# Altium footprint library IPC-7355 CQFP_Sq_63P_Side_M.PcbLib: 4 footprints
Each footprint in its own frame and in the unit in brackets; x right, y up, seen from the top. Pads: shape width x height; smd on the part's side, far side on the other; paste and mask are expansions set on the pad; w line width, h text height; cw(c..) or ccw(c..) is an arc to the next point about the centre after c.
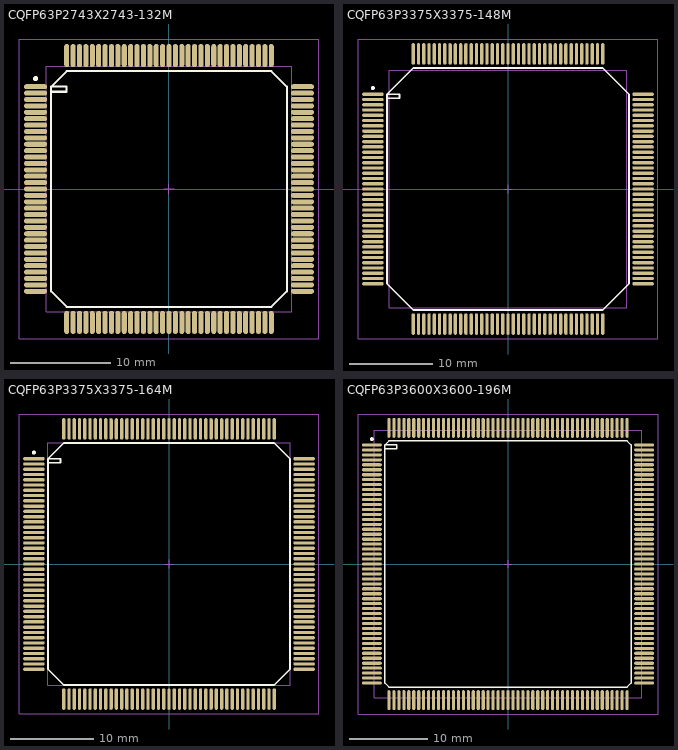
[diagram p0: the footprints below, top view; thin cyan lines are the x and y axes]

## CQFP63P2743X2743-132M [mm] "CQFP, 132-Leads, Body 24x24mm; Pitch 0.635mm, Gullwing Leadform, IPC Low Density"
height 3.6
pads (132):
  oval 2.3x0.5 smd: 1(-13.25,10.16) 2(-13.25,9.525) 3(-13.25,8.89) 4(-13.25,8.255) 5(-13.25,7.62) 6(-13.25,6.985) 7(-13.25,6.35) 8(-13.25,5.715) 9(-13.25,5.08) 10(-13.25,4.445) 11(-13.25,3.81) 12(-13.25,3.175) 13(-13.25,2.54) 14(-13.25,1.905) 15(-13.25,1.27) 16(-13.25,0.635) 17(-13.25,0) 18(-13.25,-0.635) 19(-13.25,-1.27) 20(-13.25,-1.905) 21(-13.25,-2.54) 22(-13.25,-3.175) 23(-13.25,-3.81) 24(-13.25,-4.445) 25(-13.25,-5.08) 26(-13.25,-5.715) 27(-13.25,-6.35) 28(-13.25,-6.985) 29(-13.25,-7.62) 30(-13.25,-8.255) 31(-13.25,-8.89) 32(-13.25,-9.525) 33(-13.25,-10.16) 67(13.25,-10.16) 68(13.25,-9.525) 69(13.25,-8.89) 70(13.25,-8.255) 71(13.25,-7.62) 72(13.25,-6.985) 73(13.25,-6.35) 74(13.25,-5.715) 75(13.25,-5.08) 76(13.25,-4.445) 77(13.25,-3.81) 78(13.25,-3.175) 79(13.25,-2.54) 80(13.25,-1.905) 81(13.25,-1.27) 82(13.25,-0.635) 83(13.25,0) 84(13.25,0.635) 85(13.25,1.27) 86(13.25,1.905) 87(13.25,2.54) 88(13.25,3.175) 89(13.25,3.81) 90(13.25,4.445) 91(13.25,5.08) 92(13.25,5.715) 93(13.25,6.35) 94(13.25,6.985) 95(13.25,7.62) 96(13.25,8.255) 97(13.25,8.89) 98(13.25,9.525) 99(13.25,10.16)
  oval 0.5x2.3 smd: 34(-10.16,-13.25) 35(-9.525,-13.25) 36(-8.89,-13.25) 37(-8.255,-13.25) 38(-7.62,-13.25) 39(-6.985,-13.25) 40(-6.35,-13.25) 41(-5.715,-13.25) 42(-5.08,-13.25) 43(-4.445,-13.25) 44(-3.81,-13.25) 45(-3.175,-13.25) 46(-2.54,-13.25) 47(-1.905,-13.25) 48(-1.27,-13.25) 49(-0.635,-13.25) 50(0,-13.25) 51(0.635,-13.25) 52(1.27,-13.25) 53(1.905,-13.25) 54(2.54,-13.25) 55(3.175,-13.25) 56(3.81,-13.25) 57(4.445,-13.25) 58(5.08,-13.25) 59(5.715,-13.25) 60(6.35,-13.25) 61(6.985,-13.25) 62(7.62,-13.25) 63(8.255,-13.25) 64(8.89,-13.25) 65(9.525,-13.25) 66(10.16,-13.25) 100(10.16,13.25) 101(9.525,13.25) 102(8.89,13.25) 103(8.255,13.25) 104(7.62,13.25) 105(6.985,13.25) 106(6.35,13.25) 107(5.715,13.25) 108(5.08,13.25) 109(4.445,13.25) 110(3.81,13.25) 111(3.175,13.25) 112(2.54,13.25) 113(1.905,13.25) 114(1.27,13.25) 115(0.635,13.25) 116(0,13.25) 117(-0.635,13.25) 118(-1.27,13.25) 119(-1.905,13.25) 120(-2.54,13.25) 121(-3.175,13.25) 122(-3.81,13.25) 123(-4.445,13.25) 124(-5.08,13.25) 125(-5.715,13.25) 126(-6.35,13.25) 127(-6.985,13.25) 128(-7.62,13.25) 129(-8.255,13.25) 130(-8.89,13.25) 131(-9.525,13.25) 132(-10.16,13.25)
Top Overlay:
  circle w0.25: c-13.25,10.96 r0.125
  lines w0.2: -11.7,9.66 -10.2,9.66 -10.2,10.16 -11.7,10.16 ; -11.7,10.16 -11.7,-10.16 -10.16,-11.7 10.16,-11.7 11.7,-10.16 11.7,10.16 10.16,11.7 -10.16,11.7 -11.7,10.16
Mechanical 13:
  lines w0.1: -12.19,-12.19 -12.19,12.19 12.19,12.19 12.19,-12.19 -12.19,-12.19
Mechanical 15:
  lines w0.1: -0.5,0 0.5,0 ; 0,-0.5 0,0.5 ; -14.9,-14.9 -14.9,14.9 14.9,14.9 14.9,-14.9 -14.9,-14.9
3D body: height 3.6, standoff 0, extent -12.19,-12.19 12.19,12.19

## CQFP63P3375X3375-148M [mm] "CQFP, 148-Leads, Body 28.5x28.5mm; Pitch 0.635mm, Gullwing Leadform, IPC Low Density"
height 3.1
pads (148):
  oval 2.6x0.4 smd: 1(-16.3,11.43) 2(-16.3,10.795) 3(-16.3,10.16) 4(-16.3,9.525) 5(-16.3,8.89) 6(-16.3,8.255) 7(-16.3,7.62) 8(-16.3,6.985) 9(-16.3,6.35) 10(-16.3,5.715) 11(-16.3,5.08) 12(-16.3,4.445) 13(-16.3,3.81) 14(-16.3,3.175) 15(-16.3,2.54) 16(-16.3,1.905) 17(-16.3,1.27) 18(-16.3,0.635) 19(-16.3,0) 20(-16.3,-0.635) 21(-16.3,-1.27) 22(-16.3,-1.905) 23(-16.3,-2.54) 24(-16.3,-3.175) 25(-16.3,-3.81) 26(-16.3,-4.445) 27(-16.3,-5.08) 28(-16.3,-5.715) 29(-16.3,-6.35) 30(-16.3,-6.985) 31(-16.3,-7.62) 32(-16.3,-8.255) 33(-16.3,-8.89) 34(-16.3,-9.525) 35(-16.3,-10.16) 36(-16.3,-10.795) 37(-16.3,-11.43) 75(16.3,-11.43) 76(16.3,-10.795) 77(16.3,-10.16) 78(16.3,-9.525) 79(16.3,-8.89) 80(16.3,-8.255) 81(16.3,-7.62) 82(16.3,-6.985) 83(16.3,-6.35) 84(16.3,-5.715) 85(16.3,-5.08) 86(16.3,-4.445) 87(16.3,-3.81) 88(16.3,-3.175) 89(16.3,-2.54) 90(16.3,-1.905) 91(16.3,-1.27) 92(16.3,-0.635) 93(16.3,0) 94(16.3,0.635) 95(16.3,1.27) 96(16.3,1.905) 97(16.3,2.54) 98(16.3,3.175) 99(16.3,3.81) 100(16.3,4.445) 101(16.3,5.08) 102(16.3,5.715) 103(16.3,6.35) 104(16.3,6.985) 105(16.3,7.62) 106(16.3,8.255) 107(16.3,8.89) 108(16.3,9.525) 109(16.3,10.16) 110(16.3,10.795) 111(16.3,11.43)
  oval 0.4x2.6 smd: 38(-11.43,-16.3) 39(-10.795,-16.3) 40(-10.16,-16.3) 41(-9.525,-16.3) 42(-8.89,-16.3) 43(-8.255,-16.3) 44(-7.62,-16.3) 45(-6.985,-16.3) 46(-6.35,-16.3) 47(-5.715,-16.3) 48(-5.08,-16.3) 49(-4.445,-16.3) 50(-3.81,-16.3) 51(-3.175,-16.3) 52(-2.54,-16.3) 53(-1.905,-16.3) 54(-1.27,-16.3) 55(-0.635,-16.3) 56(0,-16.3) 57(0.635,-16.3) 58(1.27,-16.3) 59(1.905,-16.3) 60(2.54,-16.3) 61(3.175,-16.3) 62(3.81,-16.3) 63(4.445,-16.3) 64(5.08,-16.3) 65(5.715,-16.3) 66(6.35,-16.3) 67(6.985,-16.3) 68(7.62,-16.3) 69(8.255,-16.3) 70(8.89,-16.3) 71(9.525,-16.3) 72(10.16,-16.3) 73(10.795,-16.3) 74(11.43,-16.3) 112(11.43,16.3) 113(10.795,16.3) 114(10.16,16.3) 115(9.525,16.3) 116(8.89,16.3) 117(8.255,16.3) 118(7.62,16.3) 119(6.985,16.3) 120(6.35,16.3) 121(5.715,16.3) 122(5.08,16.3) 123(4.445,16.3) 124(3.81,16.3) 125(3.175,16.3) 126(2.54,16.3) 127(1.905,16.3) 128(1.27,16.3) 129(0.635,16.3) 130(0,16.3) 131(-0.635,16.3) 132(-1.27,16.3) 133(-1.905,16.3) 134(-2.54,16.3) 135(-3.175,16.3) 136(-3.81,16.3) 137(-4.445,16.3) 138(-5.08,16.3) 139(-5.715,16.3) 140(-6.35,16.3) 141(-6.985,16.3) 142(-7.62,16.3) 143(-8.255,16.3) 144(-8.89,16.3) 145(-9.525,16.3) 146(-10.16,16.3) 147(-10.795,16.3) 148(-11.43,16.3)
Top Overlay:
  circle w0.25: c-16.3,12.18 r0.125
  lines w0.2: -14.6,10.93 -13.1,10.93 -13.1,11.43 -14.6,11.43 ; -14.6,11.43 -11.43,14.6 11.43,14.6 14.6,11.43 14.6,-11.43 11.43,-14.6 -11.43,-14.6 -14.6,-11.43 -14.6,11.43
Mechanical 13:
  lines w0.1: -14.355,-14.355 14.355,-14.355 14.355,14.355 -14.355,14.355 -14.355,-14.355
Mechanical 15:
  lines w0.1: -0.5,0 0.5,0 ; 0,-0.5 0,0.5 ; -18.1,-18.1 18.1,-18.1 18.1,18.1 -18.1,18.1 -18.1,-18.1
3D body: height 3.1, standoff 0, extent -14.355,-14.355 14.355,14.355

## CQFP63P3375X3375-164M [mm] "CQFP, 164-Leads, Body 29x29mm; Pitch 0.635mm, Gullwing Leadform, IPC Low Density"
height 3.4
pads (164):
  oval 2.6x0.4 smd: 1(-16.3,12.7) 2(-16.3,12.065) 3(-16.3,11.43) 4(-16.3,10.795) 5(-16.3,10.16) 6(-16.3,9.525) 7(-16.3,8.89) 8(-16.3,8.255) 9(-16.3,7.62) 10(-16.3,6.985) 11(-16.3,6.35) 12(-16.3,5.715) 13(-16.3,5.08) 14(-16.3,4.445) 15(-16.3,3.81) 16(-16.3,3.175) 17(-16.3,2.54) 18(-16.3,1.905) 19(-16.3,1.27) 20(-16.3,0.635) 21(-16.3,0) 22(-16.3,-0.635) 23(-16.3,-1.27) 24(-16.3,-1.905) 25(-16.3,-2.54) 26(-16.3,-3.175) 27(-16.3,-3.81) 28(-16.3,-4.445) 29(-16.3,-5.08) 30(-16.3,-5.715) 31(-16.3,-6.35) 32(-16.3,-6.985) 33(-16.3,-7.62) 34(-16.3,-8.255) 35(-16.3,-8.89) 36(-16.3,-9.525) 37(-16.3,-10.16) 38(-16.3,-10.795) 39(-16.3,-11.43) 40(-16.3,-12.065) 41(-16.3,-12.7) 83(16.3,-12.7) 84(16.3,-12.065) 85(16.3,-11.43) 86(16.3,-10.795) 87(16.3,-10.16) 88(16.3,-9.525) 89(16.3,-8.89) 90(16.3,-8.255) 91(16.3,-7.62) 92(16.3,-6.985) 93(16.3,-6.35) 94(16.3,-5.715) 95(16.3,-5.08) 96(16.3,-4.445) 97(16.3,-3.81) 98(16.3,-3.175) 99(16.3,-2.54) 100(16.3,-1.905) 101(16.3,-1.27) 102(16.3,-0.635) 103(16.3,0) 104(16.3,0.635) 105(16.3,1.27) 106(16.3,1.905) 107(16.3,2.54) 108(16.3,3.175) 109(16.3,3.81) 110(16.3,4.445) 111(16.3,5.08) 112(16.3,5.715) 113(16.3,6.35) 114(16.3,6.985) 115(16.3,7.62) 116(16.3,8.255) 117(16.3,8.89) 118(16.3,9.525) 119(16.3,10.16) 120(16.3,10.795) 121(16.3,11.43) 122(16.3,12.065) 123(16.3,12.7)
  oval 0.4x2.6 smd: 42(-12.7,-16.3) 43(-12.065,-16.3) 44(-11.43,-16.3) 45(-10.795,-16.3) 46(-10.16,-16.3) 47(-9.525,-16.3) 48(-8.89,-16.3) 49(-8.255,-16.3) 50(-7.62,-16.3) 51(-6.985,-16.3) 52(-6.35,-16.3) 53(-5.715,-16.3) 54(-5.08,-16.3) 55(-4.445,-16.3) 56(-3.81,-16.3) 57(-3.175,-16.3) 58(-2.54,-16.3) 59(-1.905,-16.3) 60(-1.27,-16.3) 61(-0.635,-16.3) 62(0,-16.3) 63(0.635,-16.3) 64(1.27,-16.3) 65(1.905,-16.3) 66(2.54,-16.3) 67(3.175,-16.3) 68(3.81,-16.3) 69(4.445,-16.3) 70(5.08,-16.3) 71(5.715,-16.3) 72(6.35,-16.3) 73(6.985,-16.3) 74(7.62,-16.3) 75(8.255,-16.3) 76(8.89,-16.3) 77(9.525,-16.3) 78(10.16,-16.3) 79(10.795,-16.3) 80(11.43,-16.3) 81(12.065,-16.3) 82(12.7,-16.3) 124(12.7,16.3) 125(12.065,16.3) 126(11.43,16.3) 127(10.795,16.3) 128(10.16,16.3) 129(9.525,16.3) 130(8.89,16.3) 131(8.255,16.3) 132(7.62,16.3) 133(6.985,16.3) 134(6.35,16.3) 135(5.715,16.3) 136(5.08,16.3) 137(4.445,16.3) 138(3.81,16.3) 139(3.175,16.3) 140(2.54,16.3) 141(1.905,16.3) 142(1.27,16.3) 143(0.635,16.3) 144(0,16.3) 145(-0.635,16.3) 146(-1.27,16.3) 147(-1.905,16.3) 148(-2.54,16.3) 149(-3.175,16.3) 150(-3.81,16.3) 151(-4.445,16.3) 152(-5.08,16.3) 153(-5.715,16.3) 154(-6.35,16.3) 155(-6.985,16.3) 156(-7.62,16.3) 157(-8.255,16.3) 158(-8.89,16.3) 159(-9.525,16.3) 160(-10.16,16.3) 161(-10.795,16.3) 162(-11.43,16.3) 163(-12.065,16.3) 164(-12.7,16.3)
Top Overlay:
  circle w0.25: c-16.3,13.45 r0.125
  lines w0.2: -14.6,12.2 -13.1,12.2 -13.1,12.7 -14.6,12.7 ; -14.6,12.7 -12.7,14.6 12.7,14.6 14.6,12.7 14.6,-12.7 12.7,-14.6 -12.7,-14.6 -14.6,-12.7 -14.6,12.7
Mechanical 13:
  lines w0.1: -14.65,-14.65 14.65,-14.65 14.65,14.65 -14.65,14.65 -14.65,-14.65
Mechanical 15:
  lines w0.1: -0.5,0 0.5,0 ; 0,-0.5 0,0.5 ; -18.1,-18.1 18.1,-18.1 18.1,18.1 -18.1,18.1 -18.1,-18.1
3D body: height 3.4, standoff 0, extent -14.65,-14.65 14.65,14.65

## CQFP63P3600X3600-196M [mm] "CQFP, 196-Leads, Body 34x34mm; Pitch 0.635mm, Gullwing Leadform, IPC Low Density"
height 3.5
pads (196):
  oval 2.55x0.4 smd: 1(-17.425,15.24) 2(-17.425,14.605) 3(-17.425,13.97) 4(-17.425,13.335) 5(-17.425,12.7) 6(-17.425,12.065) 7(-17.425,11.43) 8(-17.425,10.795) 9(-17.425,10.16) 10(-17.425,9.525) 11(-17.425,8.89) 12(-17.425,8.255) 13(-17.425,7.62) 14(-17.425,6.985) 15(-17.425,6.35) 16(-17.425,5.715) 17(-17.425,5.08) 18(-17.425,4.445) 19(-17.425,3.81) 20(-17.425,3.175) 21(-17.425,2.54) 22(-17.425,1.905) 23(-17.425,1.27) 24(-17.425,0.635) 25(-17.425,0) 26(-17.425,-0.635) 27(-17.425,-1.27) 28(-17.425,-1.905) 29(-17.425,-2.54) 30(-17.425,-3.175) 31(-17.425,-3.81) 32(-17.425,-4.445) 33(-17.425,-5.08) 34(-17.425,-5.715) 35(-17.425,-6.35) 36(-17.425,-6.985) 37(-17.425,-7.62) 38(-17.425,-8.255) 39(-17.425,-8.89) 40(-17.425,-9.525) 41(-17.425,-10.16) 42(-17.425,-10.795) 43(-17.425,-11.43) 44(-17.425,-12.065) 45(-17.425,-12.7) 46(-17.425,-13.335) 47(-17.425,-13.97) 48(-17.425,-14.605) 49(-17.425,-15.24) 99(17.425,-15.24) 100(17.425,-14.605) 101(17.425,-13.97) 102(17.425,-13.335) 103(17.425,-12.7) 104(17.425,-12.065) 105(17.425,-11.43) 106(17.425,-10.795) 107(17.425,-10.16) 108(17.425,-9.525) 109(17.425,-8.89) 110(17.425,-8.255) 111(17.425,-7.62) 112(17.425,-6.985) 113(17.425,-6.35) 114(17.425,-5.715) 115(17.425,-5.08) 116(17.425,-4.445) 117(17.425,-3.81) 118(17.425,-3.175) 119(17.425,-2.54) 120(17.425,-1.905) 121(17.425,-1.27) 122(17.425,-0.635) 123(17.425,0) 124(17.425,0.635) 125(17.425,1.27) 126(17.425,1.905) 127(17.425,2.54) 128(17.425,3.175) 129(17.425,3.81) 130(17.425,4.445) 131(17.425,5.08) 132(17.425,5.715) 133(17.425,6.35) 134(17.425,6.985) 135(17.425,7.62) 136(17.425,8.255) 137(17.425,8.89) 138(17.425,9.525) 139(17.425,10.16) 140(17.425,10.795) 141(17.425,11.43) 142(17.425,12.065) 143(17.425,12.7) 144(17.425,13.335) 145(17.425,13.97) 146(17.425,14.605) 147(17.425,15.24)
  oval 0.4x2.55 smd: 50(-15.24,-17.425) 51(-14.605,-17.425) 52(-13.97,-17.425) 53(-13.335,-17.425) 54(-12.7,-17.425) 55(-12.065,-17.425) 56(-11.43,-17.425) 57(-10.795,-17.425) 58(-10.16,-17.425) 59(-9.525,-17.425) 60(-8.89,-17.425) 61(-8.255,-17.425) 62(-7.62,-17.425) 63(-6.985,-17.425) 64(-6.35,-17.425) 65(-5.715,-17.425) 66(-5.08,-17.425) 67(-4.445,-17.425) 68(-3.81,-17.425) 69(-3.175,-17.425) 70(-2.54,-17.425) 71(-1.905,-17.425) 72(-1.27,-17.425) 73(-0.635,-17.425) 74(0,-17.425) 75(0.635,-17.425) 76(1.27,-17.425) 77(1.905,-17.425) 78(2.54,-17.425) 79(3.175,-17.425) 80(3.81,-17.425) 81(4.445,-17.425) 82(5.08,-17.425) 83(5.715,-17.425) 84(6.35,-17.425) 85(6.985,-17.425) 86(7.62,-17.425) 87(8.255,-17.425) 88(8.89,-17.425) 89(9.525,-17.425) 90(10.16,-17.425) 91(10.795,-17.425) 92(11.43,-17.425) 93(12.065,-17.425) 94(12.7,-17.425) 95(13.335,-17.425) 96(13.97,-17.425) 97(14.605,-17.425) 98(15.24,-17.425) 148(15.24,17.425) 149(14.605,17.425) 150(13.97,17.425) 151(13.335,17.425) 152(12.7,17.425) 153(12.065,17.425) 154(11.43,17.425) 155(10.795,17.425) 156(10.16,17.425) 157(9.525,17.425) 158(8.89,17.425) 159(8.255,17.425) 160(7.62,17.425) 161(6.985,17.425) 162(6.35,17.425) 163(5.715,17.425) 164(5.08,17.425) 165(4.445,17.425) 166(3.81,17.425) 167(3.175,17.425) 168(2.54,17.425) 169(1.905,17.425) 170(1.27,17.425) 171(0.635,17.425) 172(0,17.425) 173(-0.635,17.425) 174(-1.27,17.425) 175(-1.905,17.425) 176(-2.54,17.425) 177(-3.175,17.425) 178(-3.81,17.425) 179(-4.445,17.425) 180(-5.08,17.425) 181(-5.715,17.425) 182(-6.35,17.425) 183(-6.985,17.425) 184(-7.62,17.425) 185(-8.255,17.425) 186(-8.89,17.425) 187(-9.525,17.425) 188(-10.16,17.425) 189(-10.795,17.425) 190(-11.43,17.425) 191(-12.065,17.425) 192(-12.7,17.425) 193(-13.335,17.425) 194(-13.97,17.425) 195(-14.605,17.425) 196(-15.24,17.425)
Top Overlay:
  circle w0.25: c-17.425,15.99 r0.125
  lines w0.2: -15.75,14.74 -14.25,14.74 -14.25,15.24 -15.75,15.24 ; -15.75,15.24 -15.24,15.75 15.24,15.75 15.75,15.24 15.75,-15.24 15.24,-15.75 -15.24,-15.75 -15.75,-15.24 -15.75,15.24
Mechanical 13:
  lines w0.1: -17.15,-17.15 17.15,-17.15 17.15,17.15 -17.15,17.15 -17.15,-17.15
Mechanical 15:
  lines w0.1: -0.5,0 0.5,0 ; 0,-0.5 0,0.5 ; -19.2,-19.2 19.2,-19.2 19.2,19.2 -19.2,19.2 -19.2,-19.2
3D body: height 3.5, standoff 0, extent -17.15,-17.15 17.15,17.15